# EAGLE library part 74AVC8T245 (library Strutz Electronic Industries)
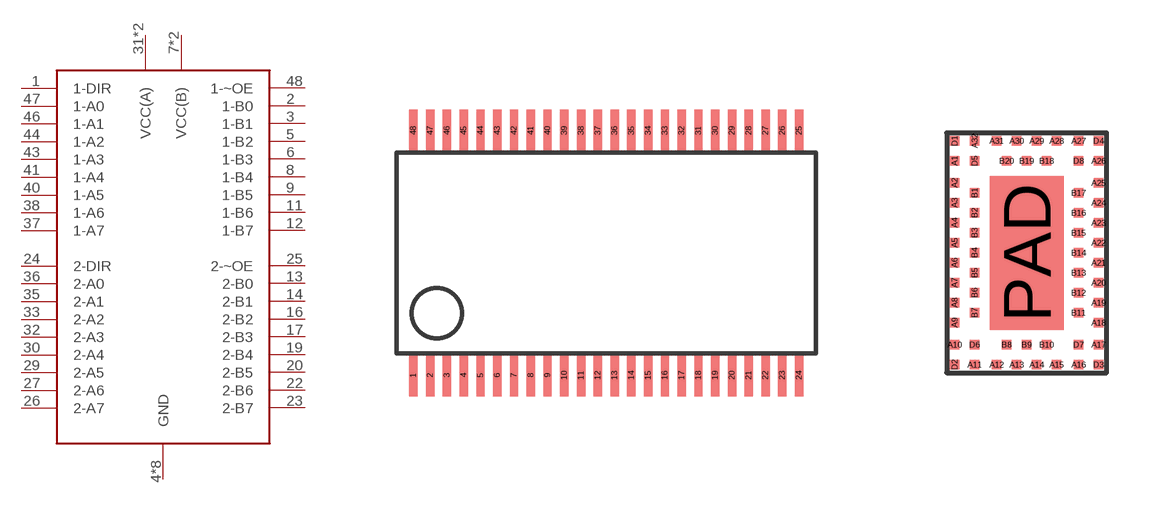
[diagram p46: symbol with the pads of TSSOP-48; footprints TSSOP-48, QFN-60]

Designator prefix -

## 74AVC8T245TSSOP  [TSSOP-48]
1  1-DIR
2  1-B0
3  1-B1
4  GND
5  1-B2
6  1-B3
7  VCC(B)
8  1-B4
9  1-B5
10  GND
11  1-B6
12  1-B7
13  2-B0
14  2-B1
15  GND
16  2-B2
17  2-B3
18  VCC(B)
19  2-B4
20  2-B5
21  GND
22  2-B6
23  2-B7
24  2-DIR
25  2-~OE
26  2-A7
27  2-A6
28  GND
29  2-A5
30  2-A4
31  VCC(A)
32  2-A3
33  2-A2
34  GND
35  2-A1
36  2-A0
37  1-A7
38  1-A6
39  GND
40  1-A5
41  1-A4
42  VCC(A)
43  1-A3
44  1-A2
45  GND
46  1-A1
47  1-A0
48  1-~OE

## 74AVC8T245QFN  [QFN-60]
A1  VCC(B)
A2  1-B4
A3  GND
A5  1-B7
A6  2-B0
A8  GND
A9  2-B3
A10  VCC(B)
A11  GND
A12  2-B6
A13  2-DIR
A14  2-~OE
A15  2-A6
A16  GND
A17  VCC(A)
A18  2-A3
A19  GND
A21  2-A0
A22  1-A7
A24  GND
A25  1-A4
A26  VCC(A)
A27  GND
A28  1-A1
A29  1-~OE
A30  1-DIR
A31  1-B1
A32  GND
B2  1-B5
B3  1-B6
B5  2-B1
B6  2-B2
B8  2-B7
B10  2-A7
B12  2-A2
B13  2-A1
B15  1-A6
B16  1-A5
B18  1-A0
B20  1-B0
D1  1-B3
D2  2-B4
D3  2-A4
D4  1-A3
D5  1-B2
D6  2-B5
D7  2-A5
D8  1-A2

## Footprint TSSOP-48 (pad centres in mm)
smd 0.25 x 1.25: 1 -5.75,-3.65; 2 -5.25,-3.65; 3 -4.75,-3.65; 4 -4.25,-3.65; 5 -3.75,-3.65; 6 -3.25,-3.65; 7 -2.75,-3.65; 8 -2.25,-3.65; 9 -1.75,-3.65; 10 -1.25,-3.65; 11 -0.75,-3.65; 12 -0.25,-3.65; 13 0.25,-3.65; 14 0.75,-3.65; 15 1.25,-3.65; 16 1.75,-3.65; 17 2.25,-3.65; 18 2.75,-3.65; 19 3.25,-3.65; 20 3.75,-3.65; 21 4.25,-3.65; 22 4.75,-3.65; 23 5.25,-3.65; 24 5.75,-3.65; 25 5.75,3.65; 26 5.25,3.65; 27 4.75,3.65; 28 4.25,3.65; 29 3.75,3.65; 30 3.25,3.65; 31 2.75,3.65; 32 2.25,3.65; 33 1.75,3.65; 34 1.25,3.65; 35 0.75,3.65; 36 0.25,3.65; 37 -0.25,3.65; 38 -0.75,3.65; 39 -1.25,3.65; 40 -1.75,3.65; 41 -2.25,3.65; 42 -2.75,3.65; 43 -3.25,3.65; 44 -3.75,3.65; 45 -4.25,3.65; 46 -4.75,3.65; 47 -5.25,3.65; 48 -5.75,3.65

## Footprint QFN-60 (pad centres in mm)
smd 0.23 x 0.23: A1 -1.8,2.3; A2 -1.8,1.75; A3 -1.8,1.25; A4 -1.8,0.75; A5 -1.8,0.25; A6 -1.8,-0.25; A7 -1.8,-0.75; A8 -1.8,-1.25; A9 -1.8,-1.75; A10 -1.8,-2.3; A11 -1.3,-2.8; A12 -0.75,-2.8; A13 -0.25,-2.8; A14 0.25,-2.8; A15 0.75,-2.8; A16 1.3,-2.8; A17 1.8,-2.3; A18 1.8,-1.75; A19 1.8,-1.25; A20 1.8,-0.75; A21 1.8,-0.25; A22 1.8,0.25; A23 1.8,0.75; A24 1.8,1.25; A25 1.8,1.75; A26 1.8,2.3; A27 1.3,2.8; A28 0.75,2.8; A29 0.25,2.8; A30 -0.25,2.8; A31 -0.75,2.8; A32 -1.3,2.8; B1 -1.3,1.5; B2 -1.3,1; B3 -1.3,0.5; B4 -1.3,0; B5 -1.3,-0.5; B6 -1.3,-1; B7 -1.3,-1.5; B8 -0.5,-2.3; B9 0,-2.3; B10 0.5,-2.3; B11 1.3,-1.5; B12 1.3,-1; B13 1.3,-0.5; B14 1.3,0; B15 1.3,0.5; B16 1.3,1; B17 1.3,1.5; B18 0.5,2.3; B19 0,2.3; B20 -0.5,2.3; D1 -1.8,2.8; D2 -1.8,-2.8; D3 1.8,-2.8; D4 1.8,2.8; D5 -1.3,2.3; D6 -1.3,-2.3; D7 1.3,-2.3; D8 1.3,2.3
smd 1.85 x 3.85: PAD 0,0